# Altium footprint library sd_card_hirose.PcbLib: 1 footprints
Each footprint in its own frame and in the unit in brackets; x right, y up, seen from the top. Pads: shape width x height; smd on the part's side, far side on the other; paste and mask are expansions set on the pad; w line width, h text height; cw(c..) or ccw(c..) is an arc to the next point about the centre after c.
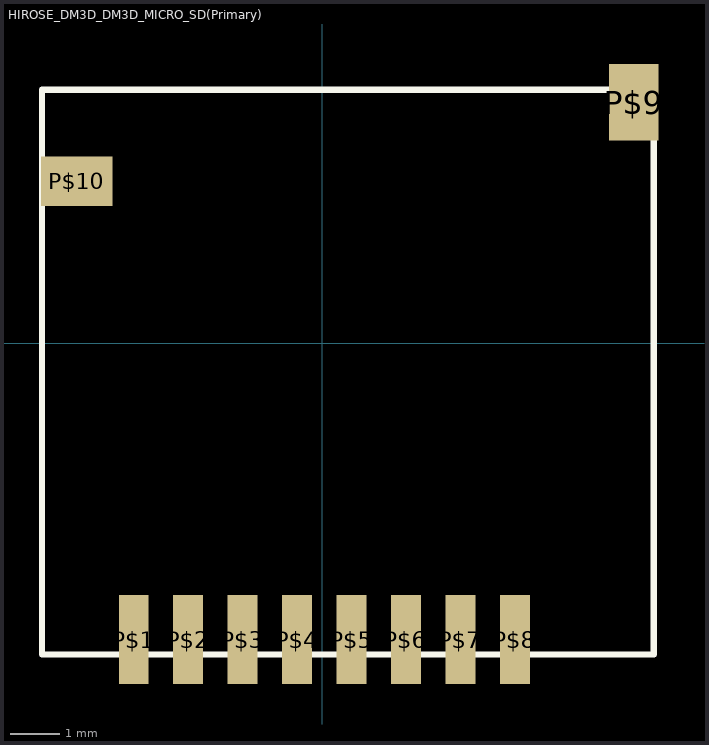
[diagram p0: the footprint, top view; thin cyan lines are the x and y axes]

## HIROSE_DM3D_DM3D_MICRO_SD(Primary) [mm]
pads (10):
  rect 0.6x1.8 smd paste-25.4 mask-25.4: P$1(-3.81,-5.98) P$2(-2.71,-5.98) P$3(-1.61,-5.98) P$4(-0.51,-5.98) P$5(0.59,-5.98) P$6(1.69,-5.98) P$7(2.79,-5.98) P$8(3.89,-5.98)
  rect 1x1.55 smd paste-25.4 mask-25.4: P$9(6.29,4.87)
  rect 1.45x1 smd paste-25.4 mask-25.4: P$10(-4.96,3.27)
Top Overlay:
  lines w0.127: -5.66,-6.28 -5.66,5.12 6.69,5.12 6.69,-6.28 -5.66,-6.28
Top Paste:
  region: -4.235,2.77 -4.235,3.77 -5.685,3.77 -5.685,2.77
  region: 5.79,4.095 6.79,4.095 6.79,5.645 5.79,5.645
  region: 4.19,-6.88 4.19,-5.08 3.59,-5.08 3.59,-6.88
  region: 3.09,-6.88 3.09,-5.08 2.49,-5.08 2.49,-6.88
  region: 1.99,-6.88 1.99,-5.08 1.39,-5.08 1.39,-6.88
  region: 0.89,-6.88 0.89,-5.08 0.29,-5.08 0.29,-6.88
  region: -0.21,-6.88 -0.21,-5.08 -0.81,-5.08 -0.81,-6.88
  region: -1.31,-6.88 -1.31,-5.08 -1.91,-5.08 -1.91,-6.88
  region: -2.41,-6.88 -2.41,-5.08 -3.01,-5.08 -3.01,-6.88
  region: -3.51,-6.88 -3.51,-5.08 -4.11,-5.08 -4.11,-6.88
Top Solder:
  region: -4.135,2.67 -4.135,3.87 -5.785,3.87 -5.785,2.67
  region: 5.69,3.995 6.89,3.995 6.89,5.745 5.69,5.745
  region: 4.29,-6.98 4.29,-4.98 3.49,-4.98 3.49,-6.98
  region: 3.19,-6.98 3.19,-4.98 2.39,-4.98 2.39,-6.98
  region: 2.09,-6.98 2.09,-4.98 1.29,-4.98 1.29,-6.98
  region: 0.99,-6.98 0.99,-4.98 0.19,-4.98 0.19,-6.98
  region: -0.11,-6.98 -0.11,-4.98 -0.91,-4.98 -0.91,-6.98
  region: -1.21,-6.98 -1.21,-4.98 -2.01,-4.98 -2.01,-6.98
  region: -2.31,-6.98 -2.31,-4.98 -3.11,-4.98 -3.11,-6.98
  region: -3.41,-6.98 -3.41,-4.98 -4.21,-4.98 -4.21,-6.98